# EAGLE library part TLW-109-05-G-D (library SAMTEC-Txx_By_element14_Batch_1)
LOW PROFILE HEADER, DOUBLE ROW, 18 way
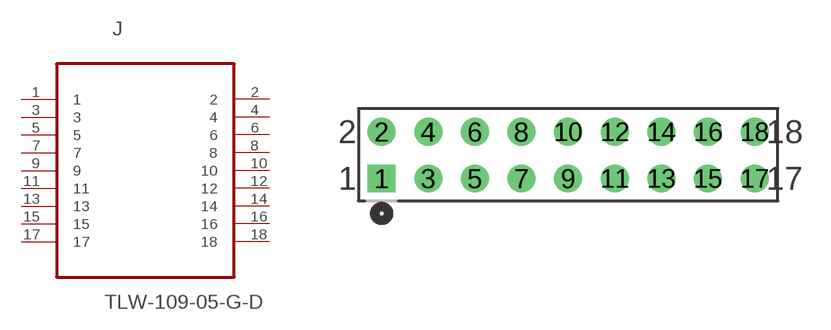
[diagram p164: symbol with the pads of SAMTEC_TLW-109-05-G-D; footprint SAMTEC_TLW-109-05-G-D]

Designator prefix J

## TLW-109-05-G-D (MPN: TLW-109-05-G-D; OC_FARNELL: 1668503; OC_NEWARK: 12P0428; PACKAGE: LOW PROFILE HEADER; SUPPLIER: SAMTEC)  [SAMTEC_TLW-109-05-G-D]
1  1  pas
2  2  pas
3  3  pas
4  4  pas
5  5  pas
6  6  pas
7  7  pas
8  8  pas
9  9  pas
10  10  pas
11  11  pas
12  12  pas
13  13  pas
14  14  pas
15  15  pas
16  16  pas
17  17  pas
18  18  pas

## Footprint SAMTEC_TLW-109-05-G-D (pad centres in mm)
drill 1.016 square: 1 -20.32,-2.54
drill 1.016: 2 -20.32,0; 3 -17.78,-2.54; 4 -17.78,0; 5 -15.24,-2.54; 6 -15.24,0; 7 -12.7,-2.54; 8 -12.7,0; 9 -10.16,-2.54; 10 -10.16,0; 11 -7.62,-2.54; 12 -7.62,0; 13 -5.08,-2.54; 14 -5.08,0; 15 -2.54,-2.54; 16 -2.54,0; 17 0,-2.54; 18 0,0